# Altium footprint library DAQ.PcbLib: 36 footprints (part 3 of 3)
Each footprint in its own frame and in the unit in brackets; x right, y up, seen from the top. Pads: shape width x height; smd on the part's side, far side on the other; paste and mask are expansions set on the pad; w line width, h text height; cw(c..) or ccw(c..) is an arc to the next point about the centre after c.
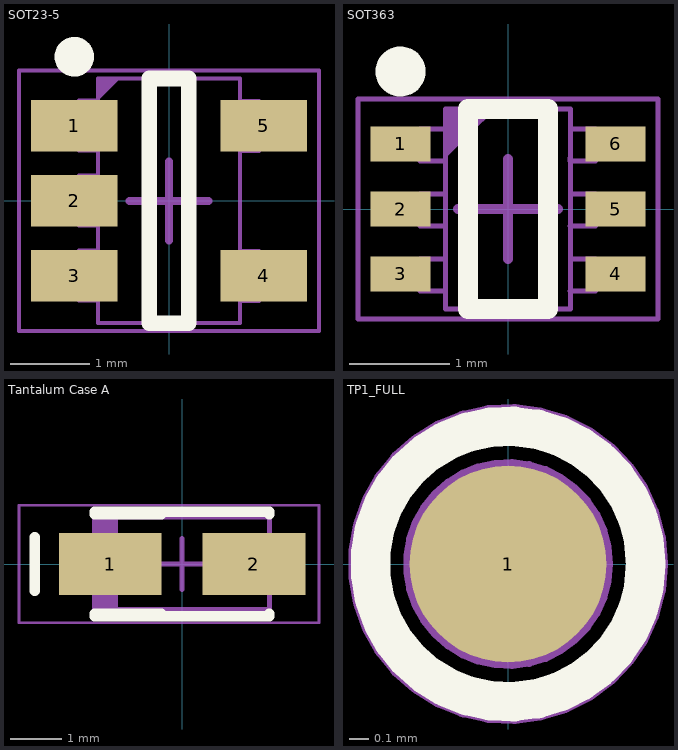
[diagram p2: the footprints below, top view; thin cyan lines are the x and y axes]

## SOT23-5 [mm]
pads (5):
  rect 1.1x0.65 smd: 1(-1.2,0.95) 2(-1.2,0) 3(-1.2,-0.95) 4(1.2,-0.95) 5(1.2,0.95)
Top Overlay:
  circle w0.25: c-1.2,1.825 r0.125
  lines w0.2: -0.25,-1.55 0.25,-1.55 0.25,1.55 -0.25,1.55 -0.25,-1.55
Top Component Outline:
  region: -0.9,1.27 -0.65,1.52 -0.65,1.55 -0.9,1.55
  lines w0.05: -0.9,-1.265 -1.143,-1.265 -1.143,-0.63 -0.9,-0.63 ; -0.9,-0.315 -1.143,-0.315 -1.143,0.32 -0.9,0.32 ; -0.9,0.635 -1.143,0.635 -1.143,1.27 -0.9,1.27 ; 0.9,-1.27 1.143,-1.27 1.143,-0.635 0.9,-0.635 ; 0.9,0.63 1.143,0.63 1.143,1.265 0.9,1.265 ; -0.9,-1.55 -0.9,1.55 0.9,1.55 0.9,-1.55 -0.9,-1.55
Top Courtyard:
  lines w0.05: -1.9,-1.65 -1.9,1.65 0.4,1.65 1.9,1.65 1.9,-1.65 -1.9,-1.65
  lines w0.1: -0.5,0 0.5,0 ; 0,-0.5 0,0.5
3D body "SOT23-5.STEP": height 1.45, standoff 0, extent -1.4,-1.45 1.4,1.45

## SOT363 [mm]
pads (6):
  rect 0.6x0.35 smd: 1(-1.075,0.65) 2(-1.075,0) 3(-1.075,-0.65) 4(1.075,-0.65) 5(1.075,0) 6(1.075,0.65)
Top Overlay:
  circle w0.25: c-1.075,1.375 r0.125
  lines w0.2: -0.4,-1 -0.4,1 0.4,1 0.4,-1 -0.4,-1
Top Component Outline:
  region: -0.127,1 -0.625,0.508 -0.625,1
  lines w0.051: -0.63,-0.5 -0.88,-0.5 -0.88,-0.82 -0.625,-0.82 ; -0.63,0.15 -0.88,0.15 -0.88,-0.17 -0.625,-0.17 ; -0.63,0.8 -0.88,0.8 -0.88,0.48 -0.625,0.48 -0.625,0.508 ; 0.62,-0.82 0.875,-0.82 0.875,-0.5 0.625,-0.5 ; 0.62,-0.17 0.875,-0.17 0.875,0.15 0.625,0.15 ; 0.62,0.508 0.62,0.48 0.875,0.48 0.875,0.8 0.625,0.8 ; -0.625,-1 0.625,-1 0.625,1 -0.625,1 -0.625,-1
Top Courtyard:
  lines w0.05: -1.5,-1.1 0.45,-1.1 1.5,-1.1 1.5,1.1 -1.5,1.1 -1.5,-1.1
  lines w0.1: -0.5,0 0.5,0 ; 0,-0.5 0,0.5
3D body "SOT363.STEP": height 1.05, standoff 0, extent -1.131,-1 1.131,1

## Tantalum Case A [mm]
pads (2):
  rect 2x1.2 smd: 1(-1.4,0) 2(1.4,0)
Top Overlay:
  lines w0.2: -2.87,-0.525 -2.87,0.525 ; -1.7,-1.016 1.7,-1.016 1.7,-0.966 ; -1.7,-0.966 -0.4,-0.966 ; -1.7,0.966 -0.4,0.966 ; -1.7,1.016 1.7,1.016 1.7,0.966
Top Component Outline:
  rectangle: -1.7,-0.887 -1.243,0.913
  lines w0.1: -1.7,-0.887 1.7,-0.887 1.7,0.913 -1.7,0.913 -1.7,-0.887
Top Courtyard:
  lines w0.05: -3.175,-1.143 -3.175,1.143 2.667,1.143 2.667,-1.143 -3.175,-1.143
  lines w0.1: -0.5,0 0.5,0 ; 0,-0.5 0,0.5
3D body "tant_A.step": height 1.8, standoff 0, extent -1.66,-0.86 1.74,0.94

## TP1_FULL [mm]
pads (1):
  round 1 smd: 1(0,0)
Top Overlay:
  circle w0.2: c0,0 r0.7
Top Component Outline:
  circle w0.051: c0,0 r0.508
Top Courtyard:
  circle w0.102: c0,0 r0.762